# Altium footprint library PCB.PcbLib: 45 footprints (part 2 of 3)
Each footprint in its own frame and in the unit in brackets; x right, y up, seen from the top. Pads: shape width x height; smd on the part's side, far side on the other; paste and mask are expansions set on the pad; w line width, h text height; cw(c..) or ccw(c..) is an arc to the next point about the centre after c.
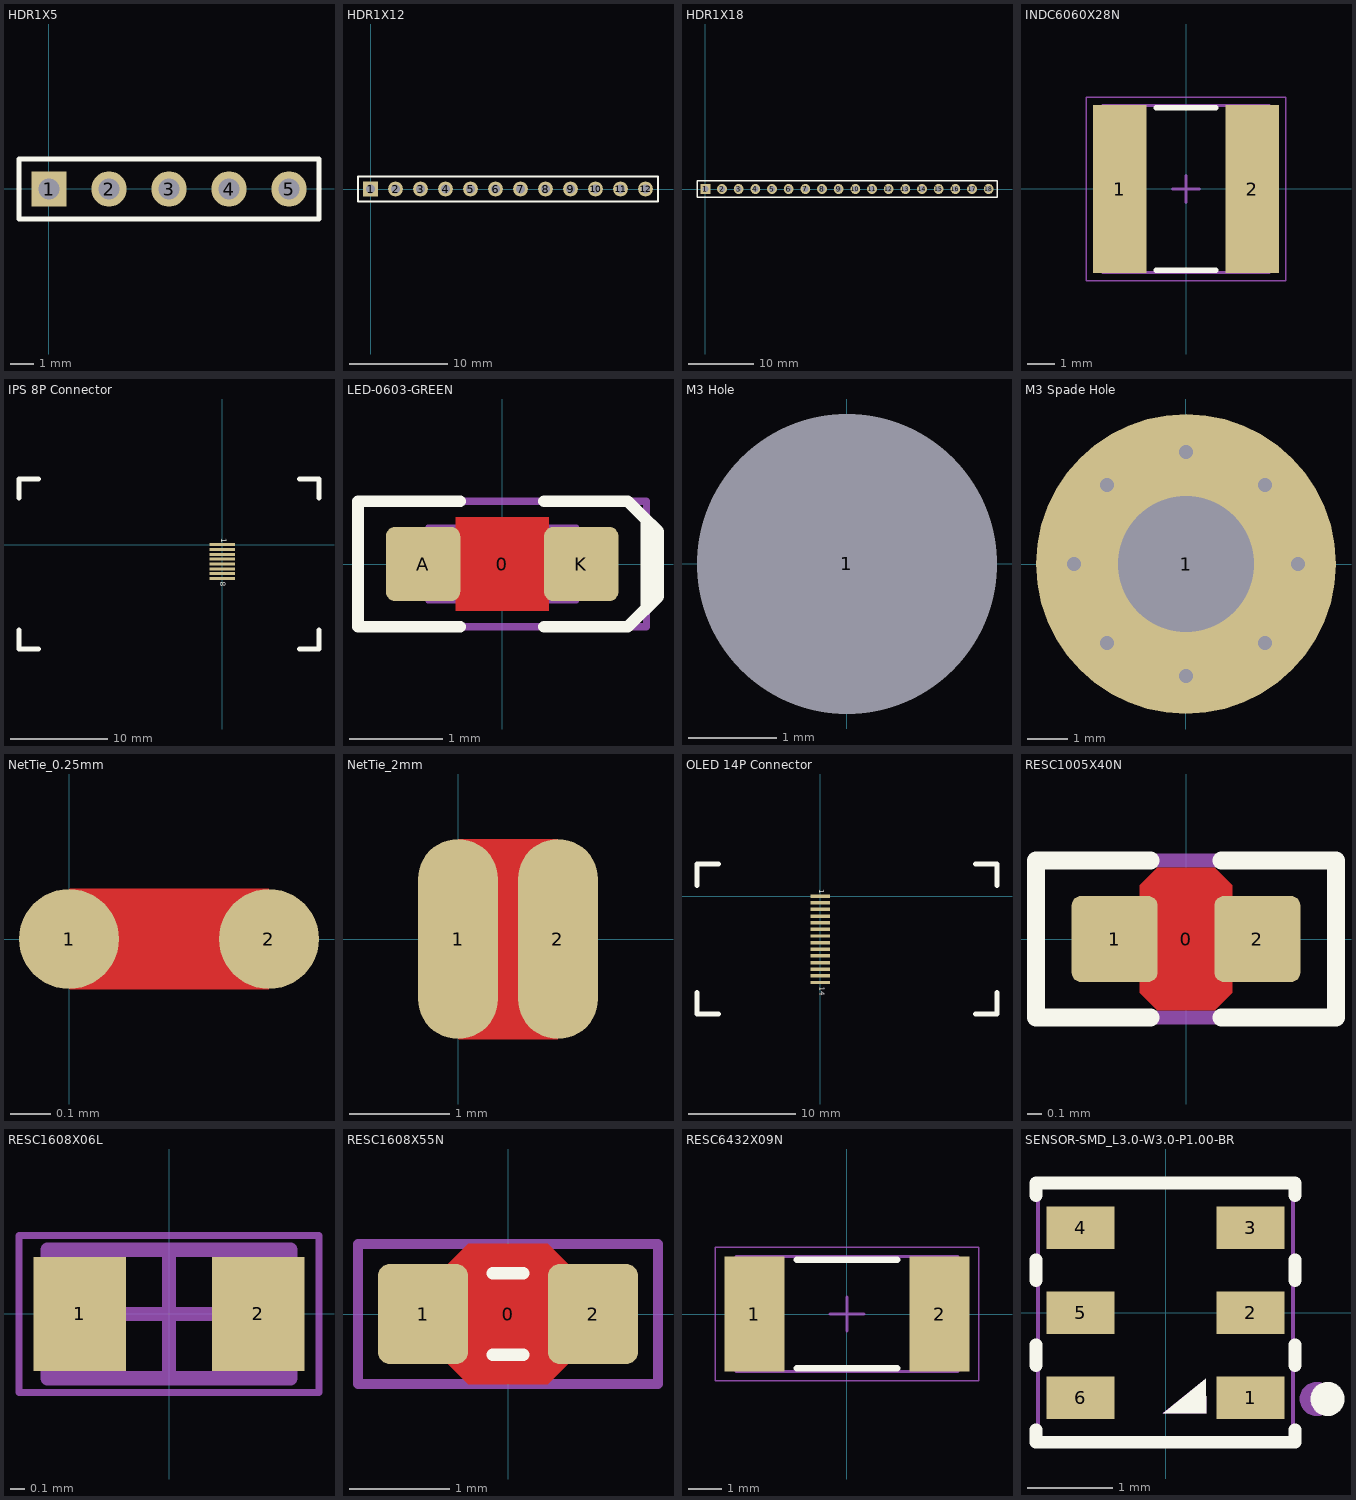
[diagram p1: the footprints below, top view; thin cyan lines are the x and y axes]

## HDR1X5 [mm]
pads (5):
  rect 1.5x1.5 hole 0.9: 1(0,0)
  round 1.5 hole 0.9: 2(2.54,0) 3(5.08,0) 4(7.62,0) 5(10.16,0)
Top Overlay:
  lines w0.2: -1.27,-1.27 11.43,-1.27 11.43,1.27 -1.27,1.27 -1.27,-1.27

## HDR1X12 [mm]
pads (12):
  rect 1.5x1.5 hole 0.9: 1(0,0)
  round 1.5 hole 0.9: 2(2.54,0) 3(5.08,0) 4(7.62,0) 5(10.16,0) 6(12.7,0) 7(15.24,0) 8(17.78,0) 9(20.32,0) 10(22.86,0) 11(25.4,0) 12(27.94,0)
Top Overlay:
  lines w0.2: -1.27,-1.27 -1.27,1.27 0.635,1.27 29.21,1.27 29.21,-1.27 -1.27,-1.27

## HDR1X18 [mm]
pads (18):
  rect 1.5x1.5 hole 0.9: 1(0,0)
  round 1.5 hole 0.9: 2(2.54,0) 3(5.08,0) 4(7.62,0) 5(10.16,0) 6(12.7,0) 7(15.24,0) 8(17.78,0) 9(20.32,0) 10(22.86,0) 11(25.4,0) 12(27.94,0) 13(30.48,0) 14(33.02,0) 15(35.56,0) 16(38.1,0) 17(40.64,0) 18(43.18,0)
Top Overlay:
  lines w0.2: -1.27,-1.27 -1.27,1.27 0.635,1.27 44.45,1.27 44.45,-1.27 -1.27,-1.27

## INDC6060X28N [mm]
pads (2):
  rect 1.98x6.22 smd: 1(-2.46,0) 2(2.46,0)
Top Overlay:
  lines w0.2: -1.1,-3.01 1.1,-3.01 ; -1.1,3.01 1.1,3.01
Mechanical 13:
  lines w0.1: -3.1,-3.1 -3.1,3.1 3.1,3.1 3.1,-3.1 -3.1,-3.1
Mechanical 15:
  lines w0.05: -3.7,-3.4 3.7,-3.4 3.7,3.4 -3.7,3.4 -3.7,-3.4
  lines w0.1: -0.5,0 0.5,0 ; 0,-0.5 0,0.5
3D body: height 2.8, standoff 0, extent -1.75,-3.1 1.75,3.1
3D body: height 2.8, standoff 0, extent 1.75,-3.1 3.1,3.1
3D body: height 2.8, standoff 0, extent -3.1,-3.1 -1.75,3.1

## IPS 8P Connector [mm]
pads (8):
  rect 2.6x0.3 smd: 1(0,0) 2(0,-0.5) 3(0,-1) 4(0,-1.5) 5(0,-2) 6(0,-2.5) 7(0,-3) 8(0,-3.5)
Top Overlay:
  lines w0.5: -21,-8.8 -21,-10.8 -19,-10.8 ; -21,4.8 -21,6.8 -19,6.8 ; 8,-10.8 10,-10.8 10,-8.8 ; 8,6.8 10,6.8 10,4.8
  text "8" at -0.4,-3.83 h1
  text "1" at -0.326,0.636 h1

## LED-0603-GREEN [mm]
pads (3):
  round 0.254 on Mech15: 0(0,0)
  rrect25% 0.8x0.8 smd: A(-0.85,0) K(0.85,0)
Top Layer:
  pour cut-out: -0.5,0.5 0.5,0.5 0.5,-0.5 -0.5,-0.5
Top Overlay:
  lines w0.127: -0.45,-0.675 -1.55,-0.675 -1.55,0.675 -0.45,0.675 ; 0.45,-0.675 1.35,-0.675 1.55,-0.475 1.55,0.475 1.35,0.675 0.45,0.675 ; 1.5,0.525 1.675,0.35 1.675,-0.35 1.525,-0.5
Mechanical 13:
  lines w0.05: -0.6,-0.4 -0.6,0.399 0.6,0.4 0.6,-0.4 -0.6,-0.399 ; -0.505,-0.398 -0.505,0.398 ; -0.5,-0.4 -0.8,-0.4 -0.8,0.4 -0.5,0.4 ; 0.5,-0.4 0.8,-0.4 0.8,0.4 0.5,0.4 ; 0.505,-0.398 0.505,0.398 ; -0.599,-0.398 0.599,-0.398 0.599,0.398 -0.599,0.398 -0.599,-0.398
Mechanical 15:
  lines w0.076: -1.55,-0.675 -1.55,0.675 1.55,0.675 1.55,-0.675 -1.55,-0.675
3D body "LED 0603 APT1608 GREEN.STEP": height 0.75, standoff 0, extent -0.8,-0.4 0.8,0.4

## M3 Hole [mm]
pads (1):
  round 3 hole 3.4 unplated: 1(0,0)

## M3 Spade Hole [mm]
pads (1):
  round 7.5 hole 3.4: 1(0,0)
via 1.98,1.98 diameter 0.7 hole 0.35
via 2.8,0 diameter 0.7 hole 0.35
via 0,2.8 diameter 0.7 hole 0.35
via 1.98,-1.98 diameter 0.7 hole 0.35
via 0,-2.8 diameter 0.7 hole 0.35
via -1.98,1.98 diameter 0.7 hole 0.35
via -2.8,0 diameter 0.7 hole 0.35
via -1.98,-1.98 diameter 0.7 hole 0.35

## NetTie_0.25mm [mm]
pads (2):
  round 0.25 smd paste-2 mask+0.102: 1(0,0) 2(0.5,0)
Top Layer:
  region: 0,0.125 0.5,0.125 0.5,-0.125 0,-0.125

## NetTie_2mm [mm]
pads (2):
  oval 0.8x2 smd paste-2 mask+0.102: 1(0,0) 2(1,0)
Top Layer:
  region: 0,1 1,1 1,-1 0,-1

## OLED 14P Connector [mm]
pads (14):
  rect 1.85x0.32 smd: 1(0,0) 2(0,-0.62) 3(0,-1.24) 4(0,-1.86) 5(0,-2.48) 6(0,-3.1) 7(0,-3.72) 8(0,-4.34) 9(0,-4.96) 10(0,-5.58) 11(0,-6.2) 12(0,-6.82) 13(0,-7.44) 14(0,-8.06)
Top Overlay:
  lines w0.5: -11.5,-9 -11.5,-11 -9.5,-11 ; -11.5,1 -11.5,3 -9.5,3 ; 14.5,-11 16.5,-11 16.5,-9 ; 14.5,3 16.5,3 16.5,1
  text "1" at -0.275,0.659 h0.8
  text "14" at -0.229,-8.451 h0.8

## RESC1005X40N [mm]
pads (3):
  round 0.2 on Mech15: 0(0,0)
  rrect20% 0.6x0.6 smd: 1(-0.5,0) 2(0.5,0)
Top Layer:
  pour cut-out: -0.325,0.375 -0.2,0.5 0.2,0.5 0.325,0.375 0.325,-0.375 0.2,-0.5 -0.2,-0.5 -0.325,-0.375
Top Overlay:
  lines w0.127: -0.25,-0.55 -1.05,-0.55 -1.05,0.55 -0.25,0.55 ; 0.25,-0.55 1.05,-0.55 1.05,0.55 0.25,0.55
Mechanical 13:
  lines w0.05: 0.225,-0.274 -0.225,-0.274 0.225,-0.274 ; -0.525,-0.275 -0.525,0.275 -0.225,0.275 -0.225,-0.275 -0.525,-0.275 ; -0.225,0.274 0.225,0.274 -0.225,0.274 ; 0.225,-0.275 0.525,-0.275 0.525,0.275 0.225,0.275 0.225,-0.275
Mechanical 15:
  lines w0.1: -1.05,-0.55 -1.05,0.55 1.05,0.55 1.05,-0.55 -1.05,-0.55
3D body "RES 0402 (1005 metric).STEP": height 0.4, standoff 0, extent -0.525,-0.275 0.525,0.275

## RESC1608X06L [mm]
pads (2):
  rect 0.65x0.8 smd: 1(-0.625,0) 2(0.625,0)
Mechanical 13:
  lines w0.1: -0.85,-0.45 -0.85,0.45 0.85,0.45 0.85,-0.45 -0.85,-0.45
Mechanical 15:
  lines w0.05: -1.05,-0.55 -1.05,0.55 1.05,0.55 1.05,-0.55 -1.05,-0.55
  lines w0.1: -0.45,0 0.45,0 ; 0,-0.45 0,0.45
3D body: height 0.6, standoff 0, extent -0.55,-0.45 0.55,0.45
3D body: height 0.6, standoff 0, extent -0.85,-0.45 -0.55,0.45
3D body: height 0.6, standoff 0, extent 0.55,-0.45 0.85,0.45

## RESC1608X55N [mm]
pads (3):
  round 0.254 on Mech15: 0(0,0)
  rrect25% 0.9x1 smd: 1(-0.85,0) 2(0.85,0)
Top Layer:
  pour cut-out: -0.6,0.5 -0.4,0.7 0.4,0.7 0.6,0.5 0.6,-0.5 0.4,-0.7 -0.4,-0.7 -0.6,-0.5
Top Overlay:
  lines w0.127: -0.152,-0.406 0.152,-0.406 ; -0.152,0.406 0.152,0.406
Mechanical 13:
  lines w0.05: -0.875,-0.475 -0.475,-0.475 -0.475,0.475 -0.875,0.475 -0.875,-0.475 ; -0.475,-0.474 0.475,-0.474 -0.475,-0.474 ; -0.475,0.474 0.475,0.474 -0.475,0.474 ; 0.475,-0.475 0.475,0.475 0.875,0.475 0.875,-0.475 0.475,-0.475
Mechanical 15:
  lines w0.1: -1.5,-0.7 -1.5,0.7 1.5,0.7 1.5,-0.7 -1.5,-0.7
3D body "RES 0603 (1608 metric).STEP": height 0.54, standoff -0.01, extent -0.875,-0.475 0.875,0.475

## RESC6432X09N [mm]
pads (2):
  rect 1.8x3.45 smd: 1(-2.775,0) 2(2.775,0)
Top Overlay:
  lines w0.2: -1.5,-1.625 1.5,-1.625 ; -1.5,1.625 1.5,1.625
Mechanical 13:
  lines w0.1: -3.325,-1.725 -3.325,1.725 3.325,1.725 3.325,-1.725 -3.325,-1.725
Mechanical 15:
  lines w0.05: -3.95,-2 3.95,-2 3.95,2 -3.95,2 -3.95,-2
  lines w0.1: -0.5,0 0.5,0 ; 0,-0.5 0,0.5
3D body: height 0.9, standoff 0, extent -3.325,-1.725 -2.425,1.725
3D body: height 0.9, standoff 0, extent -2.425,-1.725 2.425,1.725
3D body: height 0.9, standoff 0, extent 2.425,-1.725 3.325,1.725

## SENSOR-SMD_L3.0-W3.0-P1.00-BR [mm]
pads (6):
  rect 0.8x0.5 smd paste+0 mask+0.05: 1(1,-1) 2(1,0) 3(1,1) 4(-1,1) 5(-1,0) 6(-1,-1)
Top Overlay:
  circle w0.2: c1.905,-1.016 r0.1
  region: -0.028,-1.186 0.481,-1.187 0.476,-0.78
  lines w0.15: -1.524,-1.378 -1.524,-1.524 1.524,-1.524 1.524,-1.378 ; -1.524,-0.622 -1.524,-0.378 ; -1.524,0.378 -1.524,0.622 ; -1.524,1.378 -1.524,1.524 1.524,1.524 1.524,1.378 ; 1.524,-0.622 1.524,-0.378 ; 1.524,0.378 1.524,0.622
Mechanical 6:
  circle w0.2: c1.778,-1.016 r0.1
  region: -0.032,-1.186 0.477,-1.187 0.472,-0.781
Mechanical 15:
  region: 1.56,-1.5 1.559,-1.476 1.524,-1.443 1.476,-1.443 1.441,-1.476 1.44,-1.5 1.441,-1.524 1.476,-1.557 1.524,-1.557 1.559,-1.524
  region: -0.725,0.8 -1.275,0.8 -1.275,1.2 -0.725,1.2
  region: -0.725,-0.2 -1.275,-0.2 -1.275,0.2 -0.725,0.2
  region: -0.725,-1.2 -1.275,-1.2 -1.275,-0.8 -0.725,-0.8
  region: 1.275,-1.2 0.725,-1.2 0.725,-0.8 1.275,-0.8
  region: 1.275,-0.2 0.725,-0.2 0.725,0.2 1.275,0.2
  region: 1.275,0.8 0.725,0.8 0.725,1.2 1.275,1.2
  lines w0.051: -1.5,-1.5 -1.5,1.5 1.5,1.5 1.5,-1.5 -1.5,-1.5